# EAGLE library part UX60S (library con-Hirose)
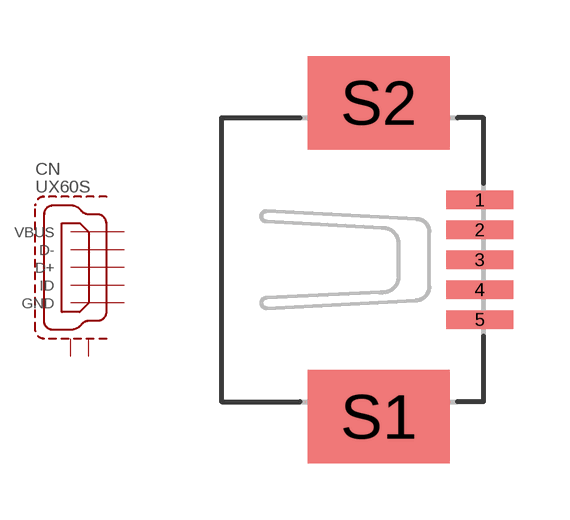
[diagram p13: symbol with the pads of UX60SC-MB-5ST; footprint UX60SC-MB-5ST]

Designator prefix CN

## UX60SC-MB-5ST  [UX60SC-MB-5ST]
1  VBUS  pas
2  D-  pas
3  D+  pas
4  ID  pas
5  GND  pas
S1  S1  pas
S2  S2  pas

## Footprint UX60SC-MB-5ST (pad centres in mm)
smd 1.8 x 0.5: 1 2.7,1.6; 2 2.7,0.8; 3 2.7,0; 4 2.7,-0.8; 5 2.7,-1.6
smd 3.8 x 2.5: S1 0,-4.2; S2 0,4.2